# EAGLE library part M37540(36PIN) (library MITSUBISHI)
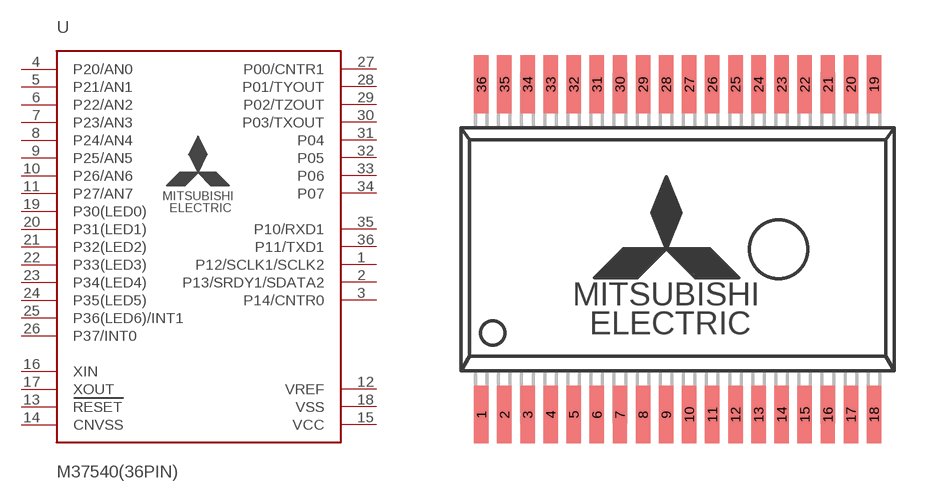
[diagram p21: symbol with the pads of 36P2R-A; footprint 36P2R-A]

Designator prefix -

## M37540(36PIN)  [36P2R-A]
1  P12/SCLK1/SCLK2
2  P13/SRDY1/SDATA2
3  P14/CNTR0
4  P20/AN0
5  P21/AN1
6  P22/AN2
7  P23/AN3
8  P24/AN4
9  P25/AN5
10  P26/AN6
11  P27/AN7
12  VREF  in
13  RESET  in
14  CNVSS  in
15  VCC  pwr
16  XIN
17  XOUT  out
18  VSS  pwr
19  P30(LED0)
20  P31(LED1)
21  P32(LED2)
22  P33(LED3)
23  P34(LED4)
24  P35(LED5)
25  P36(LED6)/INT1
26  P37/INT0
27  P00/CNTR1
28  P01/TYOUT
29  P02/TZOUT
30  P03/TXOUT
31  P04
32  P05
33  P06
34  P07
35  P10/RXD1
36  P11/TXD1

## Footprint 36P2R-A (pad centres in mm)
smd 0.5 x 2: 1 -6.8,-5.715; 2 -6,-5.715; 3 -5.2,-5.715; 4 -4.4,-5.715; 5 -3.6,-5.715; 6 -2.8,-5.715; 7 -2,-5.715; 8 -1.2,-5.715; 9 -0.4,-5.715; 10 0.4,-5.715; 11 1.2,-5.715; 12 2,-5.715; 13 2.8,-5.715; 14 3.6,-5.715; 15 4.4,-5.715; 16 5.2,-5.715; 17 6,-5.715; 18 6.8,-5.715; 19 6.8,5.715; 20 6,5.715; 21 5.2,5.715; 22 4.4,5.715; 23 3.6,5.715; 24 2.8,5.715; 25 2,5.715; 26 1.2,5.715; 27 0.4,5.715; 28 -0.4,5.715; 29 -1.2,5.715; 30 -2,5.715; 31 -2.8,5.715; 32 -3.6,5.715; 33 -4.4,5.715; 34 -5.2,5.715; 35 -6,5.715; 36 -6.8,5.715